# Altium footprint library 01550900DR.PcbLib: 1 footprints
Each footprint in its own frame and in the unit in brackets; x right, y up, seen from the top. Pads: shape width x height; smd on the part's side, far side on the other; paste and mask are expansions set on the pad; w line width, h text height; cw(c..) or ccw(c..) is an arc to the next point about the centre after c.
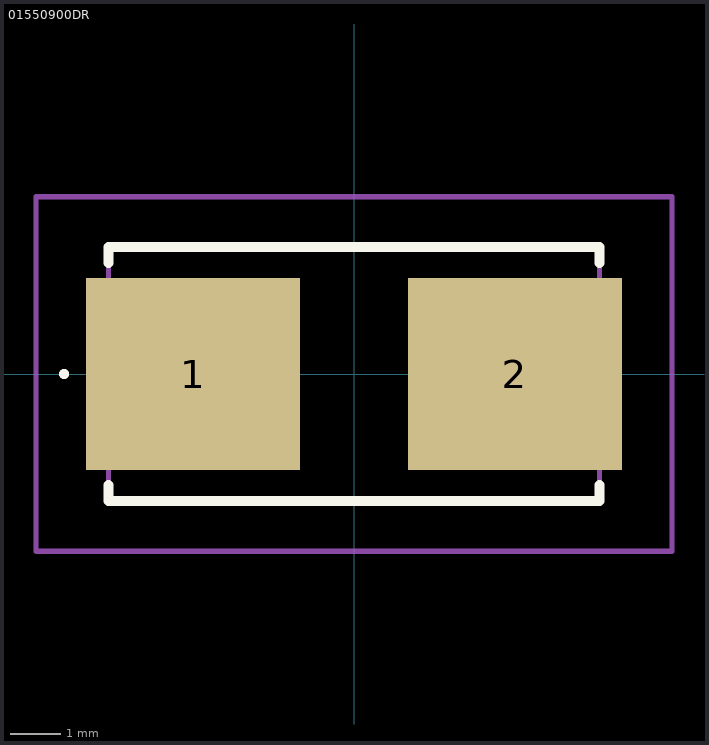
[diagram p0: the footprint, top view; thin cyan lines are the x and y axes]

## 01550900DR [mm]
pads (2):
  rect 4.24x3.81 smd: 1(-3.19,0) 2(3.19,0)
Top Overlay:
  lines w0.1: -5.8,0 -5.8,0 ; -5.8,0 ccw(c-5.75,0) -5.7,0 ; -5.8,0 cw(c-5.75,0) -5.7,0 ; -5.7,0 -5.7,0
  lines w0.2: -4.865,-2.2 -4.865,-2.515 4.865,-2.515 4.865,-2.2 ; -4.865,2.2 -4.865,2.515 4.865,2.515 4.865,2.2
Mechanical 15:
  lines w0.1: -4.865,-2.515 4.865,-2.515 4.865,2.515 -4.865,2.515 -4.865,-2.515
Mechanical 20:
  lines w0.1: -6.31,-3.515 6.31,-3.515 6.31,3.515 -6.31,3.515 -6.31,-3.515